# Altium schematic symbol library Schlib1.SchLib: 1 symbol
Pins are listed as number, name and electrical type; pins without a type are passive.

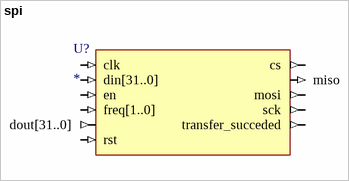
[diagram p0: symbol spi]

## spi
designator U?
pins: clk (in), cs (out), din[31..0] (in), dout[31..0] (out), en (in), freq[1..0] (in), miso (in), mosi (out), rst (in), sck (out), transfer_succeded (out)